# EAGLE library part 691415520006 (library WR-TBL Spring Clamp)
WR-TBL Series 4155 - 5.08 mm Screwless 45° Entry General Information Operating Temperature -30 °C up to +115 °C Compliance ROHS & Reach Pitch 5.08 mm Material Properties Insulator Material PA66 Insulator Flammability Rating UL94 V-0 Insulator Color Grey Contact Material INOX Steel Contact Type Stamped Wire Guard Material Copper Alloy Spring Material Stainless Steel Pin Material Copper Alloy Pin Plating Tin over Nickel Electrical Properties IR[cULus] 15 A IR[VDE] 13.5 A Working Voltage [cULus] 300 V (AC) Working Voltage [VDE] 250 V (AC) Withstanding Voltage [cULus] 1600 V (AC) Withstanding Voltage [VDE] 2200 V (AC) Contact Resistance 20 mΩ RC [cULus] 20 mΩ RC [VDE] 20 mΩ Mechanical Properties Wire Strip Length 10 (mm) Wire Properties Solid Wire Section (AWG) 24 to 14 (AWG) Solid Wire Section (Metric) 0.25 to 1.5 (mm²) Stranded Wire Section (AWG) 24 to 14 (AWG) Stranded Wire Section (Metric) 0.25 to 1.5 (mm²) Certification cULus Approval E150931 VDE Approval 40060619 Packaging Properties Packaging Box Details see: www.we-online.com/en/components/products/TBL_5_08_4155_SCREWLESS_45-DEGREE_ENTRY_69141552000X Updated by Ella Wu 2026-07-22 2026 (C) Würth Elektronik
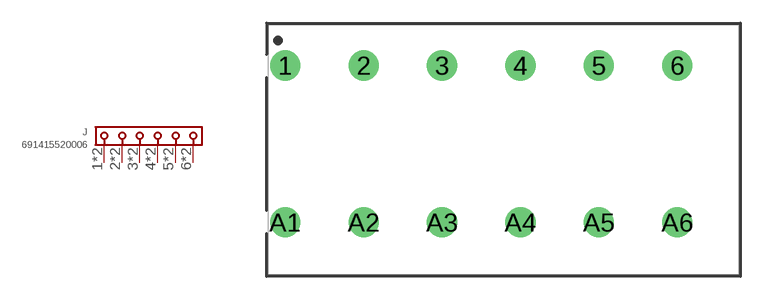
[diagram p129: symbol with the pads of 691415520006; footprint 691415520006]

Designator prefix J

## 691415520006 (APPLICATION: Screwless Push In; DATASHEET: https://www.we-online.com/redexpert/spec/691415520006?ae; IR-UL: 15A; MODULARITY: No; MOUNT: THT; PART-NUMBER: 691415520006; PINS: 6; PITCH: 5.08mm; TYPE: 45° Cable Entry; VALUE: 691415520006; WIRE: 24 to 14 (AWG) 0.25 to 1.5 (mm²); WORKING-VOLTAGE-UL: 300V (AC))  [691415520006]
1  1  pas
2  2  pas
3  3  pas
4  4  pas
5  5  pas
6  6  pas
A1  1  pas
A2  2  pas
A3  3  pas
A4  4  pas
A5  5  pas
A6  6  pas

## Footprint 691415520006 (pad centres in mm)
WR-TBL Serie 4155 - 5.08 mm Screwless 45° Entry Max Height = 13.05mm , Pitch 5.08mm , 6pins
drill 1.3: 1 -12.7,5.08; 2 -7.62,5.08; 3 -2.54,5.08; 4 2.54,5.08; 5 7.62,5.08; 6 12.7,5.08; A1 -12.7,-5.08; A2 -7.62,-5.08; A3 -2.54,-5.08; A4 2.54,-5.08; A5 7.62,-5.08; A6 12.7,-5.08